# Altium footprint library MS-022.PcbLib: 1 footprints
Each footprint in its own frame and in the unit in brackets; x right, y up, seen from the top. Pads: shape width x height; smd on the part's side, far side on the other; paste and mask are expansions set on the pad; w line width, h text height; cw(c..) or ccw(c..) is an arc to the next point about the centre after c.
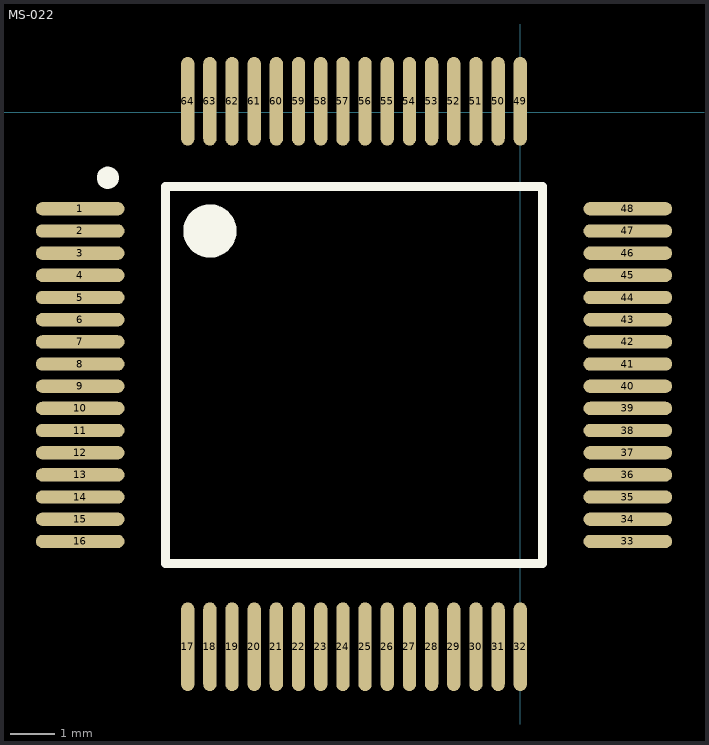
[diagram p0: the footprint, top view; thin cyan lines are the x and y axes]

## MS-022 [mm]
pads (64):
  oval 2x0.3 smd: 1(-9.925,-2.175) 2(-9.925,-2.675) 3(-9.925,-3.175) 4(-9.925,-3.675) 5(-9.925,-4.175) 6(-9.925,-4.675) 7(-9.925,-5.175) 8(-9.925,-5.675) 9(-9.925,-6.175) 10(-9.925,-6.675) 11(-9.925,-7.175) 12(-9.925,-7.675) 13(-9.925,-8.175) 14(-9.925,-8.675) 15(-9.925,-9.175) 16(-9.925,-9.675) 33(2.425,-9.675) 34(2.425,-9.175) 35(2.425,-8.675) 36(2.425,-8.175) 37(2.425,-7.675) 38(2.425,-7.175) 39(2.425,-6.675) 40(2.425,-6.175) 41(2.425,-5.675) 42(2.425,-5.175) 43(2.425,-4.675) 44(2.425,-4.175) 45(2.425,-3.675) 46(2.425,-3.175) 47(2.425,-2.675) 48(2.425,-2.175)
  oval 0.3x2 smd: 17(-7.5,-12.05) 18(-7,-12.05) 19(-6.5,-12.05) 20(-6,-12.05) 21(-5.5,-12.05) 22(-5,-12.05) 23(-4.5,-12.05) 24(-4,-12.05) 25(-3.5,-12.05) 26(-3,-12.05) 27(-2.5,-12.05) 28(-2,-12.05) 29(-1.5,-12.05) 30(-1,-12.05) 31(-0.5,-12.05) 32(0,-12.05) 49(0,0.25) 50(-0.5,0.25) 51(-1,0.25) 52(-1.5,0.25) 53(-2,0.25) 54(-2.5,0.25) 55(-3,0.25) 56(-3.5,0.25) 57(-4,0.25) 58(-4.5,0.25) 59(-5,0.25) 60(-5.5,0.25) 61(-6,0.25) 62(-6.5,0.25) 63(-7,0.25) 64(-7.5,0.25)
Top Overlay:
  circle w0.6: c-7,-2.675 r0.3
  circle w0.25: c-9.3,-1.475 r0.125
  lines w0.2: -8,-10.175 0.5,-10.175 0.5,-1.675 -8,-1.675 -8,-10.175